# Altium integrated library USB-B1HSB6.IntLib: 1 symbol
Pins are listed as number, name and electrical type; pins without a type are passive.

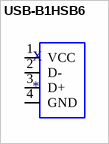
[diagram p0: symbol USB-B1HSB6]

## USB-B1HSB6
designator X
USB-B _USB TYPE-B_ Receptacle Connector 4 Position Through Hole, Right Angle; MP: USB-B1HSB6; MF: On Shore; Value: *; SnapEDA_Link: https://www.snapeda.com/parts/USB-B1HSB6/On%20Shore%20Technology%20Inc./view-part/227661/?ref=snap; Digi-Key_Purchase_URL: https://www.digikey.com/product-detail/en/on-shore-technology-inc/USB-B1HSB6/ED2983-ND/2677744?utm_source=snapeda&utm_medium=aggregator&utm_campaign=symbol; Digi-Key_Part_Number: ED2983-ND; Package: None
footprint OST_USB-B1HSB6
pins: 1 VCC (power), 2 D- (io), 3 D+ (io), 4 GND (power)